# EAGLE library part 61300815721 (library Wuerth_Elektronik_eiCan_Pin_&_Socked_Headers_v1.3)
WR-PHD 2.54mm Socket Header Bottom Entry, 8 Pins
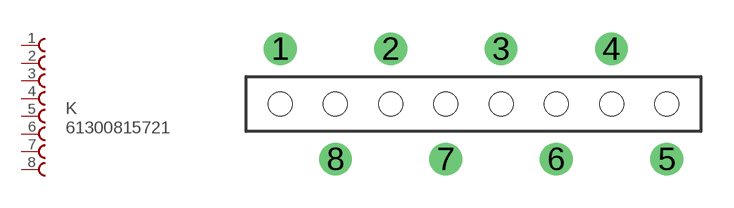
[diagram p187: symbol with the pads of 61300815721; footprint 61300815721]

Designator prefix K

## 61300815721  [61300815721]
1  1  pas
2  2  pas
3  3  pas
4  4  pas
5  5  pas
6  6  pas
7  7  pas
8  8  pas

## Footprint 61300815721 (pad centres in mm)
WR-PHD 2.54mm Socket Header Bottom Entry, 8 Pins
drill 1 round: 1 -11.43,2.54; 2 -6.35,2.54; 3 -1.27,2.54; 4 3.81,2.54; 5 6.35,-2.54; 6 1.27,-2.54; 7 -3.81,-2.54; 8 -8.89,-2.54
hole 1.1 at -11.43,0
hole 1.1 at -8.89,0
hole 1.1 at -6.35,0
hole 1.1 at -3.81,0
hole 1.1 at -1.27,0
hole 1.1 at 1.27,0
hole 1.1 at 3.81,0
hole 1.1 at 6.35,0